# EAGLE library part CYUSB33X3 (library CYUSB33X3)
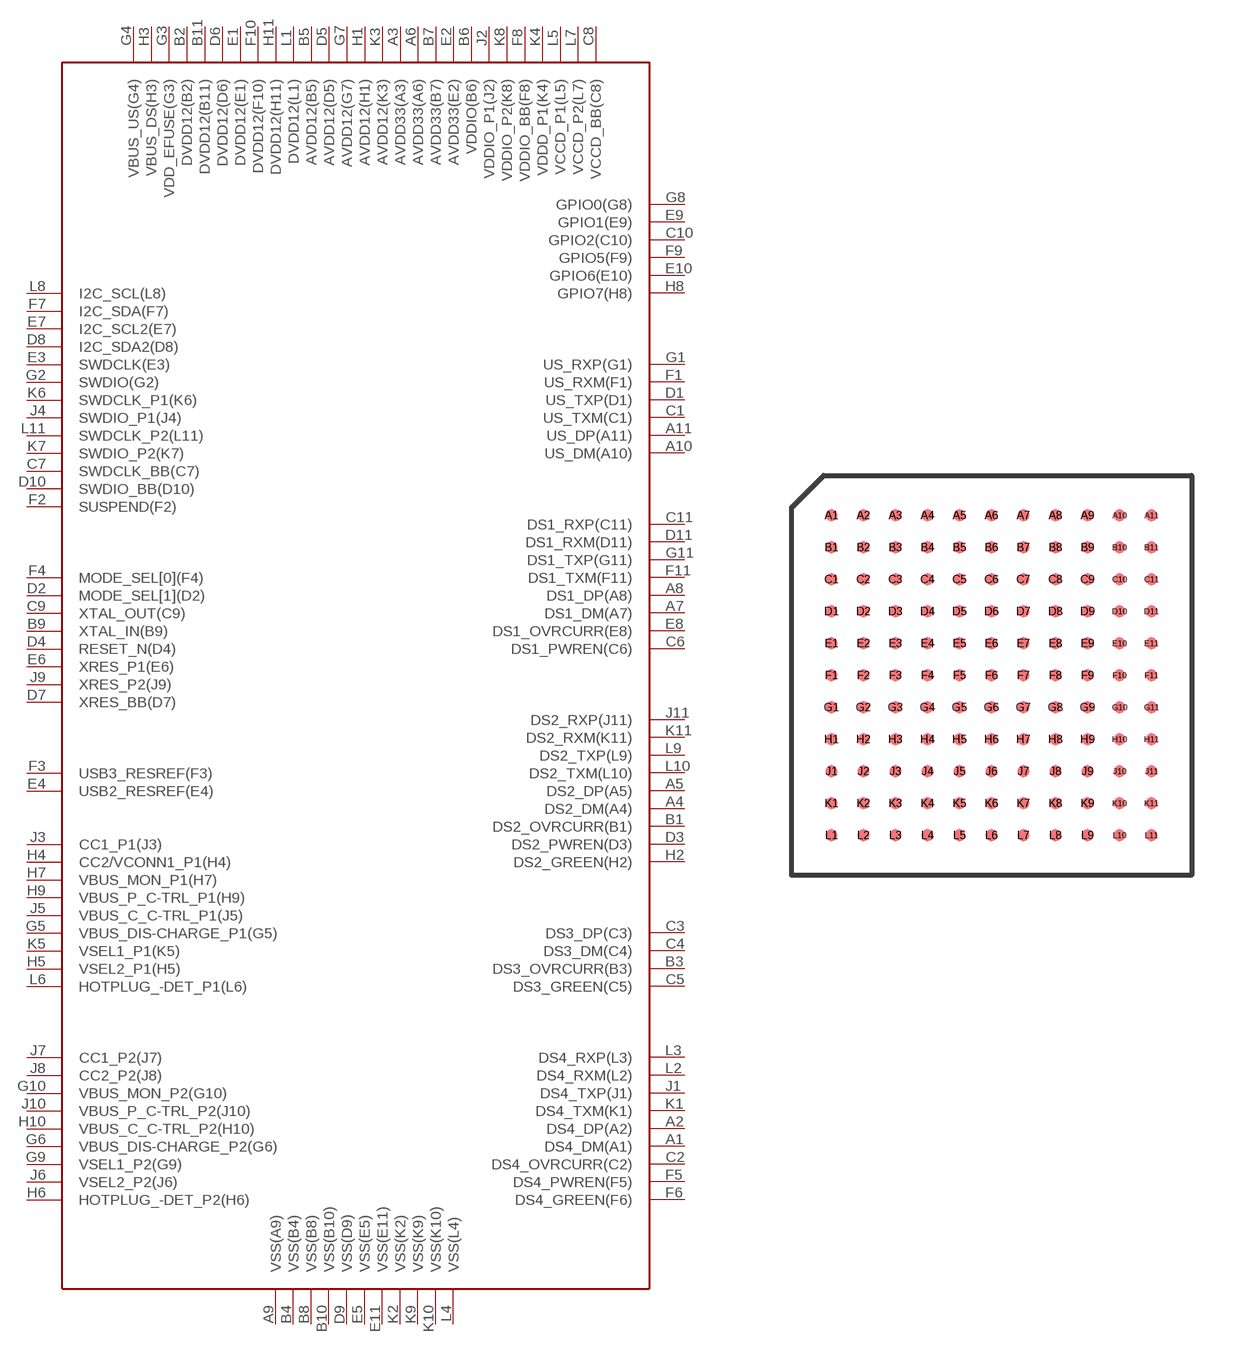
[diagram p0: symbol with the pads of CYUSB33X3; footprint CYUSB33X3]

Designator prefix -

## CYUSB33X3  [CYUSB33X3]
A1  DS4_DM(A1)
A2  DS4_DP(A2)
A3  AVDD33(A3)
A4  DS2_DM(A4)
A5  DS2_DP(A5)
A6  AVDD33(A6)
A7  DS1_DM(A7)
A8  DS1_DP(A8)
A9  VSS(A9)
A10  US_DM(A10)
A11  US_DP(A11)
B1  DS2_OVRCURR(B1)
B2  DVDD12(B2)
B3  DS3_OVRCURR(B3)
B4  VSS(B4)
B5  AVDD12(B5)
B6  VDDIO(B6)
B7  AVDD33(B7)
B8  VSS(B8)
B9  XTAL_IN(B9)
B10  VSS(B10)
B11  DVDD12(B11)
C1  US_TXM(C1)
C2  DS4_OVRCURR(C2)
C3  DS3_DP(C3)
C4  DS3_DM(C4)
C5  DS3_GREEN(C5)
C6  DS1_PWREN(C6)
C7  SWDCLK_BB(C7)
C8  VCCD_BB(C8)
C9  XTAL_OUT(C9)
C10  GPIO2(C10)
C11  DS1_RXP(C11)
D1  US_TXP(D1)
D2  MODE_SEL[1](D2)
D3  DS2_PWREN(D3)
D4  RESET_N(D4)
D5  AVDD12(D5)
D6  DVDD12(D6)
D7  XRES_BB(D7)
D8  I2C_SDA2(D8)
D9  VSS(D9)
D10  SWDIO_BB(D10)
D11  DS1_RXM(D11)
E1  DVDD12(E1)
E2  AVDD33(E2)
E3  SWDCLK(E3)
E4  USB2_RESREF(E4)
E5  VSS(E5)
E6  XRES_P1(E6)
E7  I2C_SCL2(E7)
E8  DS1_OVRCURR(E8)
E9  GPIO1(E9)
E10  GPIO6(E10)
E11  VSS(E11)
F1  US_RXM(F1)
F2  SUSPEND(F2)
F3  USB3_RESREF(F3)
F4  MODE_SEL[0](F4)
F5  DS4_PWREN(F5)
F6  DS4_GREEN(F6)
F7  I2C_SDA(F7)
F8  VDDIO_BB(F8)
F9  GPIO5(F9)
F10  DVDD12(F10)
F11  DS1_TXM(F11)
G1  US_RXP(G1)
G2  SWDIO(G2)
G3  VDD_EFUSE(G3)
G4  VBUS_US(G4)
G5  VBUS_DIS-CHARGE_P1(G5)
G6  VBUS_DIS-CHARGE_P2(G6)
G7  AVDD12(G7)
G8  GPIO0(G8)
G9  VSEL1_P2(G9)
G10  VBUS_MON_P2(G10)
G11  DS1_TXP(G11)
H1  AVDD12(H1)
H2  DS2_GREEN(H2)
H3  VBUS_DS(H3)
H4  CC2/VCONN1_P1(H4)
H5  VSEL2_P1(H5)
H6  HOTPLUG_-DET_P2(H6)
H7  VBUS_MON_P1(H7)
H8  GPIO7(H8)
H9  VBUS_P_C-TRL_P1(H9)
H10  VBUS_C_C-TRL_P2(H10)
H11  DVDD12(H11)
J1  DS4_TXP(J1)
J2  VDDIO_P1(J2)
J3  CC1_P1(J3)
J4  SWDIO_P1(J4)
J5  VBUS_C_C-TRL_P1(J5)
J6  VSEL2_P2(J6)
J7  CC1_P2(J7)
J8  CC2_P2(J8)
J9  XRES_P2(J9)
J10  VBUS_P_C-TRL_P2(J10)
J11  DS2_RXP(J11)
K1  DS4_TXM(K1)
K2  VSS(K2)
K3  AVDD12(K3)
K4  VDDD_P1(K4)
K5  VSEL1_P1(K5)
K6  SWDCLK_P1(K6)
K7  SWDIO_P2(K7)
K8  VDDIO_P2(K8)
K9  VSS(K9)
K10  VSS(K10)
K11  DS2_RXM(K11)
L1  DVDD12(L1)
L2  DS4_RXM(L2)
L3  DS4_RXP(L3)
L4  VSS(L4)
L5  VCCD_P1(L5)
L6  HOTPLUG_-DET_P1(L6)
L7  VCCD_P2(L7)
L8  I2C_SCL(L8)
L9  DS2_TXP(L9)
L10  DS2_TXM(L10)
L11  SWDCLK_P2(L11)

## Footprint CYUSB33X3 (pad centres in mm)
smd 0.3 x 0.3: A1 1,9; A2 1.8,9; A3 2.6,9; A4 3.4,9; A5 4.2,9; A6 5,9; A7 5.8,9; A8 6.6,9; A9 7.4,9; A10 8.2,9; A11 9,9; B1 1,8.2; B2 1.8,8.2; B3 2.6,8.2; B4 3.4,8.2; B5 4.2,8.2; B6 5,8.2; B7 5.8,8.2; B8 6.6,8.2; B9 7.4,8.2; B10 8.2,8.2; B11 9,8.2; C1 1,7.4; C2 1.8,7.4; C3 2.6,7.4; C4 3.4,7.4; C5 4.2,7.4; C6 5,7.4; C7 5.8,7.4; C8 6.6,7.4; C9 7.4,7.4; C10 8.2,7.4; C11 9,7.4; D1 1,6.6; D2 1.8,6.6; D3 2.6,6.6; D4 3.4,6.6; D5 4.2,6.6; D6 5,6.6; D7 5.8,6.6; D8 6.6,6.6; D9 7.4,6.6; D10 8.2,6.6; D11 9,6.6; E1 1,5.8; E2 1.8,5.8; E3 2.6,5.8; E4 3.4,5.8; E5 4.2,5.8; E6 5,5.8; E7 5.8,5.8; E8 6.6,5.8; E9 7.4,5.8; E10 8.2,5.8; E11 9,5.8; F1 1,5; F2 1.8,5; F3 2.6,5; F4 3.4,5; F5 4.2,5; F6 5,5; F7 5.8,5; F8 6.6,5; F9 7.4,5; F10 8.2,5; F11 9,5; G1 1,4.2; G2 1.8,4.2; G3 2.6,4.2; G4 3.4,4.2; G5 4.2,4.2; G6 5,4.2; G7 5.8,4.2; G8 6.6,4.2; G9 7.4,4.2; G10 8.2,4.2; G11 9,4.2; H1 1,3.4; H2 1.8,3.4; H3 2.6,3.4; H4 3.4,3.4; H5 4.2,3.4; H6 5,3.4; H7 5.8,3.4; H8 6.6,3.4; H9 7.4,3.4; H10 8.2,3.4; H11 9,3.4; J1 1,2.6; J2 1.8,2.6; J3 2.6,2.6; J4 3.4,2.6; J5 4.2,2.6; J6 5,2.6; J7 5.8,2.6; J8 6.6,2.6; J9 7.4,2.6; J10 8.2,2.6; J11 9,2.6; K1 1,1.8; K2 1.8,1.8; K3 2.6,1.8; K4 3.4,1.8; K5 4.2,1.8; K6 5,1.8; K7 5.8,1.8; K8 6.6,1.8; K9 7.4,1.8; K10 8.2,1.8; K11 9,1.8; L1 1,1; L2 1.8,1; L3 2.6,1; L4 3.4,1; L5 4.2,1; L6 5,1; L7 5.8,1; L8 6.6,1; L9 7.4,1; L10 8.2,1; L11 9,1